# Altium schematic symbol library WE-MAIA.SchLib: 166 symbols (part 2 of 4)
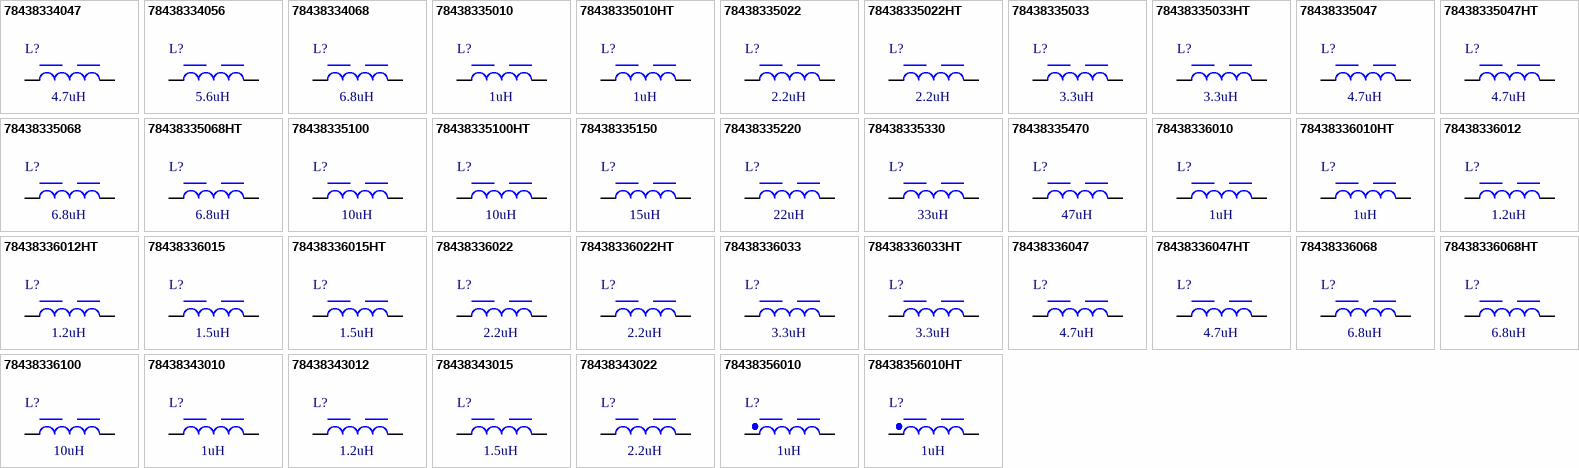
[diagram p5: symbols 78438334047 to 78438356010HT]

## 78438335150
designator L?, comment 15uH
WE-MAIA SMT Power Inductor, size 3015, 15uH, 0.95A, 830mOhm; Manufacturer Part Number: 78438335150; Manufacturer: Wurth Elektronik; Case/Size Code: 3015; Saturation Current @ 10%: 1.17A; Saturation Current @ 30%: 2.2A; Self Resonant Frequency: 14MHz; Category: Power Inductors; Match Code: WE-MAIA; ComponentLink1Description: Website Link; ComponentLink1URL: https://www.we-online.com/redexpert/article/78438335150?ad; ComponentLink2Description: Datasheet Link; ComponentLink2URL: https://www.we-online.com/redexpert/spec/78438335150?ad; Mount: Surface Mount; Operating Temperature Max: 125°C; Operating Temperature Min: -40°C; Packaging: Tape and Reel; Length: 3mm; Width: 3mm; Height: 1.5mm; Automotive: Yes; DC Resistance Max: 830mOhm; Inductance: 15uH; Rated Current: 0.95A
footprint WE-MAIA_3015
simulation model 3015_78438335150_15u
pins: 1, 2

## 78438335220
designator L?, comment 22uH
WE-MAIA SMT Power Inductor, size 3015, 22uH, 0.85A, 1040mOhm; Manufacturer Part Number: 78438335220; Manufacturer: Wurth Elektronik; Case/Size Code: 3015; Saturation Current @ 10%: 1.1A; Saturation Current @ 30%: 2A; Self Resonant Frequency: 12MHz; Category: Power Inductors; Match Code: WE-MAIA; ComponentLink1Description: Website Link; ComponentLink1URL: https://www.we-online.com/redexpert/article/78438335220?ad; ComponentLink2Description: Datasheet Link; ComponentLink2URL: https://www.we-online.com/redexpert/spec/78438335220?ad; Mount: Surface Mount; Operating Temperature Max: 125°C; Operating Temperature Min: -40°C; Packaging: Tape and Reel; Length: 3mm; Width: 3mm; Height: 1.5mm; Automotive: Yes; DC Resistance Max: 1040mOhm; Inductance: 22uH; Rated Current: 0.85A
footprint WE-MAIA_3015
simulation model 3015_78438335220_22u
pins: 1, 2

## 78438335330
designator L?, comment 33uH
WE-MAIA SMT Power Inductor, size 3015, 33uH, 0.7A, 1330mOhm; Manufacturer Part Number: 78438335330; Manufacturer: Wurth Elektronik; Case/Size Code: 3015; Saturation Current @ 10%: 0.9A; Saturation Current @ 30%: 1.7A; Self Resonant Frequency: 10MHz; Category: Power Inductors; Match Code: WE-MAIA; ComponentLink1Description: Website Link; ComponentLink1URL: https://www.we-online.com/redexpert/article/78438335330?ad; ComponentLink2Description: Datasheet Link; ComponentLink2URL: https://www.we-online.com/redexpert/spec/78438335330?ad; Mount: Surface Mount; Operating Temperature Max: 125°C; Operating Temperature Min: -40°C; Packaging: Tape and Reel; Length: 3mm; Width: 3mm; Height: 1.5mm; Automotive: Yes; DC Resistance Max: 1330mOhm; Inductance: 33uH; Rated Current: 0.7A
footprint WE-MAIA_3015
simulation model 3015_78438335330_33u
pins: 1, 2

## 78438335470
designator L?, comment 47uH
WE-MAIA SMT Power Inductor, size 3015, 47uH, 0.5A, 2300mOhm; Manufacturer Part Number: 78438335470; Manufacturer: Wurth Elektronik; Case/Size Code: 3015; Saturation Current @ 10%: 0.75A; Saturation Current @ 30%: 1.5A; Self Resonant Frequency: 8MHz; Category: Power Inductors; Match Code: WE-MAIA; ComponentLink1Description: Website Link; ComponentLink1URL: https://www.we-online.com/redexpert/article/78438335470?ad; ComponentLink2Description: Datasheet Link; ComponentLink2URL: https://www.we-online.com/redexpert/spec/78438335470?ad; Mount: Surface Mount; Operating Temperature Max: 125°C; Operating Temperature Min: -40°C; Packaging: Tape and Reel; Length: 3mm; Width: 3mm; Height: 1.5mm; Automotive: Yes; DC Resistance Max: 2300mOhm; Inductance: 47uH; Rated Current: 0.5A
footprint WE-MAIA_3015
simulation model 3015_78438335470_47u
pins: 1, 2

## 78438336010
designator L?, comment 1uH
WE-MAIA SMT Power Inductor, size 3020, 1uH, 6.15A, 32mOhm; Manufacturer Part Number: 78438336010; Manufacturer: Wurth Elektronik; Case/Size Code: 3020; Saturation Current @ 10%: 3.25A; Saturation Current @ 30%: 6.5A; Self Resonant Frequency: 67MHz; Category: Power Inductors; Match Code: WE-MAIA; ComponentLink1Description: Website Link; ComponentLink1URL: https://www.we-online.com/redexpert/article/78438336010?ad; ComponentLink2Description: Datasheet Link; ComponentLink2URL: https://www.we-online.com/redexpert/spec/78438336010?ad; Mount: Surface Mount; Operating Temperature Max: 125°C; Operating Temperature Min: -40°C; Packaging: Tape and Reel; Length: 3mm; Width: 3mm; Height: 2mm; Automotive: Yes; DC Resistance Max: 32mOhm; Inductance: 1uH; Rated Current: 6.15A
footprint WE-MAIA_3020
simulation model 3020_78438336010_1u
pins: 1, 2

## 78438336010HT
designator L?, comment 1uH
WE-MAIA SMT Power Inductor, size 3020HT, 1uH, 5.8A, 32.8mOhm; Manufacturer Part Number: 78438336010HT; Manufacturer: Wurth Elektronik; Saturation Current @ 10%: 2.7A; Saturation Current @ 30%: 6.3A; Self Resonant Frequency: 67MHz; Category: Power Inductors; Match Code: WE-MAIA; ComponentLink1Description: Website Link; ComponentLink1URL: https://www.we-online.com/redexpert/article/78438336010HT?ad; ComponentLink2Description: Datasheet Link; ComponentLink2URL: https://www.we-online.com/redexpert/spec/78438336010HT?ad; Mount: Surface Mount; Operating Temperature Max: 150°C; Operating Temperature Min: -55°C; Packaging: Tape and Reel; Case/Size Code: 3020HT; Length: 3mm; Width: 3mm; Height: 2mm; Automotive: Yes; DC Resistance Max: 32.8mOhm; Inductance: 1uH; Rated Current: 5.8A
footprint WE-MAIA_3020HT
simulation model 3020HT_78438336010HT_1u
pins: 1, 2

## 78438336012
designator L?, comment 1.2uH
WE-MAIA SMT Power Inductor, size 3020, 1.2uH, 5.65A, 36mOhm; Manufacturer Part Number: 78438336012; Manufacturer: Wurth Elektronik; Case/Size Code: 3020; Saturation Current @ 10%: 3.05A; Saturation Current @ 30%: 6A; Self Resonant Frequency: 57MHz; Category: Power Inductors; Match Code: WE-MAIA; ComponentLink1Description: Website Link; ComponentLink1URL: https://www.we-online.com/redexpert/article/78438336012?ad; ComponentLink2Description: Datasheet Link; ComponentLink2URL: https://www.we-online.com/redexpert/spec/78438336012?ad; Mount: Surface Mount; Operating Temperature Max: 125°C; Operating Temperature Min: -40°C; Packaging: Tape and Reel; Length: 3mm; Width: 3mm; Height: 2mm; Automotive: Yes; DC Resistance Max: 36mOhm; Inductance: 1.2uH; Rated Current: 5.65A
footprint WE-MAIA_3020
simulation model 3020_78438336012_1.2u
pins: 1, 2

## 78438336012HT
designator L?, comment 1.2uH
WE-MAIA SMT Power Inductor, size 3020HT, 1.2uH, 5.4A, 37.5mOhm; Manufacturer Part Number: 78438336012HT; Manufacturer: Wurth Elektronik; Saturation Current @ 10%: 2.7A; Saturation Current @ 30%: 6A; Self Resonant Frequency: 60MHz; Category: Power Inductors; Match Code: WE-MAIA; ComponentLink1Description: Website Link; ComponentLink1URL: https://www.we-online.com/redexpert/article/78438336012HT?ad; ComponentLink2Description: Datasheet Link; ComponentLink2URL: https://www.we-online.com/redexpert/spec/78438336012HT?ad; Mount: Surface Mount; Operating Temperature Max: 150°C; Operating Temperature Min: -55°C; Packaging: Tape and Reel; Case/Size Code: 3020HT; Length: 3mm; Width: 3mm; Height: 2mm; Automotive: Yes; DC Resistance Max: 37.5mOhm; Inductance: 1.2uH; Rated Current: 5.4A
footprint WE-MAIA_3020HT
simulation model 3020HT_78438336012HT_1.2u
pins: 1, 2

## 78438336015
designator L?, comment 1.5uH
WE-MAIA SMT Power Inductor, size 3020, 1.5uH, 5.35A, 39mOhm; Manufacturer Part Number: 78438336015; Manufacturer: Wurth Elektronik; Case/Size Code: 3020; Saturation Current @ 10%: 2.95A; Saturation Current @ 30%: 5.85A; Self Resonant Frequency: 51MHz; Category: Power Inductors; Match Code: WE-MAIA; ComponentLink1Description: Website Link; ComponentLink1URL: https://www.we-online.com/redexpert/article/78438336015?ad; ComponentLink2Description: Datasheet Link; ComponentLink2URL: https://www.we-online.com/redexpert/spec/78438336015?ad; Mount: Surface Mount; Operating Temperature Max: 125°C; Operating Temperature Min: -40°C; Packaging: Tape and Reel; Length: 3mm; Width: 3mm; Height: 2mm; Automotive: Yes; DC Resistance Max: 39mOhm; Inductance: 1.5uH; Rated Current: 5.35A
footprint WE-MAIA_3020
simulation model 3020_78438336015_1.5u
pins: 1, 2

## 78438336015HT
designator L?, comment 1.5uH
WE-MAIA SMT Power Inductor, size 3020HT, 1.5uH, 5.2A, 40.5mOhm; Manufacturer Part Number: 78438336015HT; Manufacturer: Wurth Elektronik; Saturation Current @ 10%: 2.4A; Saturation Current @ 30%: 5.5A; Self Resonant Frequency: 53MHz; Category: Power Inductors; Match Code: WE-MAIA; ComponentLink1Description: Website Link; ComponentLink1URL: https://www.we-online.com/redexpert/article/78438336015HT?ad; ComponentLink2Description: Datasheet Link; ComponentLink2URL: https://www.we-online.com/redexpert/spec/78438336015HT?ad; Mount: Surface Mount; Operating Temperature Max: 150°C; Operating Temperature Min: -55°C; Packaging: Tape and Reel; Case/Size Code: 3020HT; Length: 3mm; Width: 3mm; Height: 2mm; Automotive: Yes; DC Resistance Max: 40.5mOhm; Inductance: 1.5uH; Rated Current: 5.2A
footprint WE-MAIA_3020HT
simulation model 3020HT_78438336015HT_1.5u
pins: 1, 2

## 78438336022
designator L?, comment 2.2uH
WE-MAIA SMT Power Inductor, size 3020, 2.2uH, 3.6A, 80mOhm; Manufacturer Part Number: 78438336022; Manufacturer: Wurth Elektronik; Case/Size Code: 3020; Saturation Current @ 10%: 2.75A; Saturation Current @ 30%: 5.55A; Self Resonant Frequency: 42MHz; Category: Power Inductors; Match Code: WE-MAIA; ComponentLink1Description: Website Link; ComponentLink1URL: https://www.we-online.com/redexpert/article/78438336022?ad; ComponentLink2Description: Datasheet Link; ComponentLink2URL: https://www.we-online.com/redexpert/spec/78438336022?ad; Mount: Surface Mount; Operating Temperature Max: 125°C; Operating Temperature Min: -40°C; Packaging: Tape and Reel; Length: 3mm; Width: 3mm; Height: 2mm; Automotive: Yes; DC Resistance Max: 80mOhm; Inductance: 2.2uH; Rated Current: 3.6A
footprint WE-MAIA_3020
simulation model 3020_78438336022_2.2u
pins: 1, 2

## 78438336022HT
designator L?, comment 2.2uH
WE-MAIA SMT Power Inductor, size 3020HT, 2.2uH, 4A, 65.5mOhm; Manufacturer Part Number: 78438336022HT; Manufacturer: Wurth Elektronik; Saturation Current @ 10%: 2.3A; Saturation Current @ 30%: 5.2A; Self Resonant Frequency: 47MHz; Category: Power Inductors; Match Code: WE-MAIA; ComponentLink1Description: Website Link; ComponentLink1URL: https://www.we-online.com/redexpert/article/78438336022HT?ad; ComponentLink2Description: Datasheet Link; ComponentLink2URL: https://www.we-online.com/redexpert/spec/78438336022HT?ad; Mount: Surface Mount; Operating Temperature Max: 150°C; Operating Temperature Min: -55°C; Packaging: Tape and Reel; Case/Size Code: 3020HT; Length: 3mm; Width: 3mm; Height: 2mm; Automotive: Yes; DC Resistance Max: 65.5mOhm; Inductance: 2.2uH; Rated Current: 4A
footprint WE-MAIA_3020HT
simulation model 3020HT_78438336022HT_2.2u
pins: 1, 2

## 78438336033
designator L?, comment 3.3uH
WE-MAIA SMT Power Inductor, size 3020, 3.3uH, 2.9A, 114mOhm; Manufacturer Part Number: 78438336033; Manufacturer: Wurth Elektronik; Case/Size Code: 3020; Saturation Current @ 10%: 2.85A; Saturation Current @ 30%: 5.35A; Self Resonant Frequency: 39MHz; Category: Power Inductors; Match Code: WE-MAIA; ComponentLink1Description: Website Link; ComponentLink1URL: https://www.we-online.com/redexpert/article/78438336033?ad; ComponentLink2Description: Datasheet Link; ComponentLink2URL: https://www.we-online.com/redexpert/spec/78438336033?ad; Mount: Surface Mount; Operating Temperature Max: 125°C; Operating Temperature Min: -40°C; Packaging: Tape and Reel; Length: 3mm; Width: 3mm; Height: 2mm; Automotive: Yes; DC Resistance Max: 114mOhm; Inductance: 3.3uH; Rated Current: 2.9A
footprint WE-MAIA_3020
simulation model 3020_78438336033_3.3u
pins: 1, 2

## 78438336033HT
designator L?, comment 3.3uH
WE-MAIA SMT Power Inductor, size 3020HT, 3.3uH, 3.1A, 98.8mOhm; Manufacturer Part Number: 78438336033HT; Manufacturer: Wurth Elektronik; Saturation Current @ 10%: 1.9A; Saturation Current @ 30%: 4.3A; Self Resonant Frequency: 37MHz; Category: Power Inductors; Match Code: WE-MAIA; ComponentLink1Description: Website Link; ComponentLink1URL: https://www.we-online.com/redexpert/article/78438336033HT?ad; ComponentLink2Description: Datasheet Link; ComponentLink2URL: https://www.we-online.com/redexpert/spec/78438336033HT?ad; Mount: Surface Mount; Operating Temperature Max: 150°C; Operating Temperature Min: -55°C; Packaging: Tape and Reel; Case/Size Code: 3020HT; Length: 3mm; Width: 3mm; Height: 2mm; Automotive: Yes; DC Resistance Max: 98.8mOhm; Inductance: 3.3uH; Rated Current: 3.1A
footprint WE-MAIA_3020HT
simulation model 3020HT_78438336033HT_3.3u
pins: 1, 2

## 78438336047
designator L?, comment 4.7uH
WE-MAIA SMT Power Inductor, size 3020, 4.7uH, 2.4A, 158mOhm; Manufacturer Part Number: 78438336047; Manufacturer: Wurth Elektronik; Case/Size Code: 3020; Saturation Current @ 30%: 5.15A; Self Resonant Frequency: 30MHz; Category: Power Inductors; Match Code: WE-MAIA; ComponentLink1Description: Website Link; ComponentLink1URL: https://www.we-online.com/redexpert/article/78438336047?ad; ComponentLink2Description: Datasheet Link; ComponentLink2URL: https://www.we-online.com/redexpert/spec/78438336047?ad; Mount: Surface Mount; Operating Temperature Max: 125°C; Operating Temperature Min: -40°C; Packaging: Tape and Reel; Length: 3mm; Width: 3mm; Height: 2mm; Automotive: Yes; DC Resistance Max: 158mOhm; Inductance: 4.7uH; Rated Current: 2.4A; Saturation Current @ 10%: 2.4A
footprint WE-MAIA_3020
simulation model 3020_78438336047_4.7u
pins: 1, 2

## 78438336047HT
designator L?, comment 4.7uH
WE-MAIA SMT Power Inductor, size 3020HT, 4.7uH, 2.5A, 150.2mOhm; Manufacturer Part Number: 78438336047HT; Manufacturer: Wurth Elektronik; Saturation Current @ 10%: 2A; Saturation Current @ 30%: 4.1A; Self Resonant Frequency: 28MHz; Category: Power Inductors; Match Code: WE-MAIA; ComponentLink1Description: Website Link; ComponentLink1URL: https://www.we-online.com/redexpert/article/78438336047HT?ad; ComponentLink2Description: Datasheet Link; ComponentLink2URL: https://www.we-online.com/redexpert/spec/78438336047HT?ad; Mount: Surface Mount; Operating Temperature Max: 150°C; Operating Temperature Min: -55°C; Packaging: Tape and Reel; Case/Size Code: 3020HT; Length: 3mm; Width: 3mm; Height: 2mm; Automotive: Yes; DC Resistance Max: 150.2mOhm; Inductance: 4.7uH; Rated Current: 2.5A
footprint WE-MAIA_3020HT
simulation model 3020HT_78438336047HT_4.7u
pins: 1, 2

## 78438336068
designator L?, comment 6.8uH
WE-MAIA SMT Power Inductor, size 3020, 6.8uH, 2.15A, 193mOhm; Manufacturer Part Number: 78438336068; Manufacturer: Wurth Elektronik; Case/Size Code: 3020; Saturation Current @ 10%: 1.85A; Saturation Current @ 30%: 3.65A; Self Resonant Frequency: 22MHz; Category: Power Inductors; Match Code: WE-MAIA; ComponentLink1Description: Website Link; ComponentLink1URL: https://www.we-online.com/redexpert/article/78438336068?ad; ComponentLink2Description: Datasheet Link; ComponentLink2URL: https://www.we-online.com/redexpert/spec/78438336068?ad; Mount: Surface Mount; Operating Temperature Max: 125°C; Operating Temperature Min: -40°C; Packaging: Tape and Reel; Length: 3mm; Width: 3mm; Height: 2mm; Automotive: Yes; DC Resistance Max: 193mOhm; Inductance: 6.8uH; Rated Current: 2.15A
footprint WE-MAIA_3020
simulation model 3020_78438336068_6.8u
pins: 1, 2

## 78438336068HT
designator L?, comment 6.8uH
WE-MAIA SMT Power Inductor, size 3020HT, 6.8uH, 2A, 227.1mOhm; Manufacturer Part Number: 78438336068HT; Manufacturer: Wurth Elektronik; Saturation Current @ 10%: 1.8A; Saturation Current @ 30%: 3.7A; Self Resonant Frequency: 22MHz; Category: Power Inductors; Match Code: WE-MAIA; ComponentLink1Description: Website Link; ComponentLink1URL: https://www.we-online.com/redexpert/article/78438336068HT?ad; ComponentLink2Description: Datasheet Link; ComponentLink2URL: https://www.we-online.com/redexpert/spec/78438336068HT?ad; Mount: Surface Mount; Operating Temperature Max: 150°C; Operating Temperature Min: -55°C; Packaging: Tape and Reel; Case/Size Code: 3020HT; Length: 3mm; Width: 3mm; Height: 2mm; Automotive: Yes; DC Resistance Max: 227.1mOhm; Inductance: 6.8uH; Rated Current: 2A
footprint WE-MAIA_3020HT
simulation model 3020HT_78438336068HT_6.8u
pins: 1, 2

## 78438336100
designator L?, comment 10uH
WE-MAIA SMT Power Inductor, size 3020, 10uH, 1.65A, 322mOhm; Manufacturer Part Number: 78438336100; Manufacturer: Wurth Elektronik; Case/Size Code: 3020; Saturation Current @ 10%: 1.55A; Saturation Current @ 30%: 3A; Self Resonant Frequency: 18MHz; Category: Power Inductors; Match Code: WE-MAIA; ComponentLink1Description: Website Link; ComponentLink1URL: https://www.we-online.com/redexpert/article/78438336100?ad; ComponentLink2Description: Datasheet Link; ComponentLink2URL: https://www.we-online.com/redexpert/spec/78438336100?ad; Mount: Surface Mount; Operating Temperature Max: 125°C; Operating Temperature Min: -40°C; Packaging: Tape and Reel; Length: 3mm; Width: 3mm; Height: 2mm; Automotive: Yes; DC Resistance Max: 322mOhm; Inductance: 10uH; Rated Current: 1.65A
footprint WE-MAIA_3020
simulation model 3020_78438336100_10u
pins: 1, 2

## 78438343010
designator L?, comment 1uH
WE-MAIA SMT Power Inductor, size 2010, 1uH, 2.8A, 104mOhm; Manufacturer Part Number: 78438343010; Manufacturer: Wurth Elektronik; Case/Size Code: 2010; Saturation Current @ 10%: 2.5A; Saturation Current @ 30%: 4.7A; Self Resonant Frequency: 99MHz; Category: Power Inductors; Match Code: WE-MAIA; ComponentLink1Description: Website Link; ComponentLink1URL: https://www.we-online.com/redexpert/article/78438343010?ad; ComponentLink2Description: Datasheet Link; ComponentLink2URL: https://www.we-online.com/redexpert/spec/78438343010?ad; Mount: Surface Mount; Operating Temperature Max: 125°C; Operating Temperature Min: -40°C; Packaging: Tape and Reel; Length: 2mm; Width: 1.6mm; Height: 1mm; Automotive: Yes; DC Resistance Max: 104mOhm; Inductance: 1uH; Rated Current: 2.8A
footprint WE-MAIA_2010
simulation model 2010_78438343010_1u
pins: 1, 2

## 78438343012
designator L?, comment 1.2uH
WE-MAIA SMT Power Inductor, size 2010, 1.2uH, 2.4A, 136mOhm; Manufacturer Part Number: 78438343012; Manufacturer: Wurth Elektronik; Case/Size Code: 2010; Saturation Current @ 10%: 2.55A; Saturation Current @ 30%: 4.9A; Self Resonant Frequency: 96MHz; Category: Power Inductors; Match Code: WE-MAIA; ComponentLink1Description: Website Link; ComponentLink1URL: https://www.we-online.com/redexpert/article/78438343012?ad; ComponentLink2Description: Datasheet Link; ComponentLink2URL: https://www.we-online.com/redexpert/spec/78438343012?ad; Mount: Surface Mount; Operating Temperature Max: 125°C; Operating Temperature Min: -40°C; Packaging: Tape and Reel; Length: 2mm; Width: 1.6mm; Height: 1mm; Automotive: Yes; DC Resistance Max: 136mOhm; Inductance: 1.2uH; Rated Current: 2.4A
footprint WE-MAIA_2010
simulation model 2010_78438343012_1.2u
pins: 1, 2

## 78438343015
designator L?, comment 1.5uH
WE-MAIA SMT Power Inductor, size 2010, 1.5uH, 2.05A, 180mOhm; Manufacturer Part Number: 78438343015; Manufacturer: Wurth Elektronik; Case/Size Code: 2010; Saturation Current @ 10%: 2A; Saturation Current @ 30%: 3.95A; Self Resonant Frequency: 85MHz; Category: Power Inductors; Match Code: WE-MAIA; ComponentLink1Description: Website Link; ComponentLink1URL: https://www.we-online.com/redexpert/article/78438343015?ad; ComponentLink2Description: Datasheet Link; ComponentLink2URL: https://www.we-online.com/redexpert/spec/78438343015?ad; Mount: Surface Mount; Operating Temperature Max: 125°C; Operating Temperature Min: -40°C; Packaging: Tape and Reel; Length: 2mm; Width: 1.6mm; Height: 1mm; Automotive: Yes; DC Resistance Max: 180mOhm; Inductance: 1.5uH; Rated Current: 2.05A
footprint WE-MAIA_2010
simulation model 2010_78438343015_1.5u
pins: 1, 2

## 78438343022
designator L?, comment 2.2uH
WE-MAIA SMT Power Inductor, size 2010, 2.2uH, 1.65A, 270mOhm; Manufacturer Part Number: 78438343022; Manufacturer: Wurth Elektronik; Case/Size Code: 2010; Saturation Current @ 30%: 3.3A; Self Resonant Frequency: 70MHz; Category: Power Inductors; Match Code: WE-MAIA; ComponentLink1Description: Website Link; ComponentLink1URL: https://www.we-online.com/redexpert/article/78438343022?ad; ComponentLink2Description: Datasheet Link; ComponentLink2URL: https://www.we-online.com/redexpert/spec/78438343022?ad; Mount: Surface Mount; Operating Temperature Max: 125°C; Operating Temperature Min: -40°C; Packaging: Tape and Reel; Length: 2mm; Width: 1.6mm; Height: 1mm; Automotive: Yes; DC Resistance Max: 270mOhm; Inductance: 2.2uH; Rated Current: 1.65A; Saturation Current @ 10%: 1.65A
footprint WE-MAIA_2010
simulation model 2010_78438343022_2.2u
pins: 1, 2

## 78438356010
designator L?, comment 1uH
WE-MAIA SMT Power Inductor, size 4020, 1uH, 10.1A, 15mOhm; Manufacturer Part Number: 78438356010; Manufacturer: Wurth Elektronik; Case/Size Code: 4020; Saturation Current @ 10%: 5.3A; Saturation Current @ 30%: 11.5A; Self Resonant Frequency: 55MHz; Category: Power Inductors; Match Code: WE-MAIA; ComponentLink1Description: Website Link; ComponentLink1URL: https://www.we-online.com/redexpert/article/78438356010?ad; ComponentLink2Description: Datasheet Link; ComponentLink2URL: https://www.we-online.com/redexpert/spec/78438356010?ad; Mount: Surface Mount; Operating Temperature Max: 125°C; Operating Temperature Min: -40°C; Packaging: Tape and Reel; Length: 4.1mm; Width: 4.1mm; Height: 2.1mm; Automotive: Yes; DC Resistance Max: 15mOhm; Inductance: 1uH; Rated Current: 10.1A
footprint WE-MAIA_4020
simulation model 4020_78438356010_1u
pins: 1, 2

## 78438356010HT
designator L?, comment 1uH
WE-MAIA SMT Power Inductor, size 4020HT, 1uH, 8.75A, 15.5mOhm; Manufacturer Part Number: 78438356010HT; Manufacturer: Wurth Elektronik; Saturation Current @ 10%: 4.25A; Saturation Current @ 30%: 9.3A; Self Resonant Frequency: 46MHz; Category: Power Inductors; Match Code: WE-MAIA; ComponentLink1Description: Website Link; ComponentLink1URL: https://www.we-online.com/redexpert/article/78438356010HT?ad; ComponentLink2Description: Datasheet Link; ComponentLink2URL: https://www.we-online.com/redexpert/spec/78438356010HT?ad; Mount: Surface Mount; Operating Temperature Max: 150°C; Operating Temperature Min: -55°C; Packaging: Tape and Reel; Case/Size Code: 4020HT; Length: 4mm; Width: 4mm; Height: 2.4mm; Automotive: Yes; DC Resistance Max: 15.5mOhm; Inductance: 1uH; Rated Current: 8.75A
footprint WE-MAIA_4020HT
simulation model 4020HT_78438356010HT_1u
pins: 1, 2

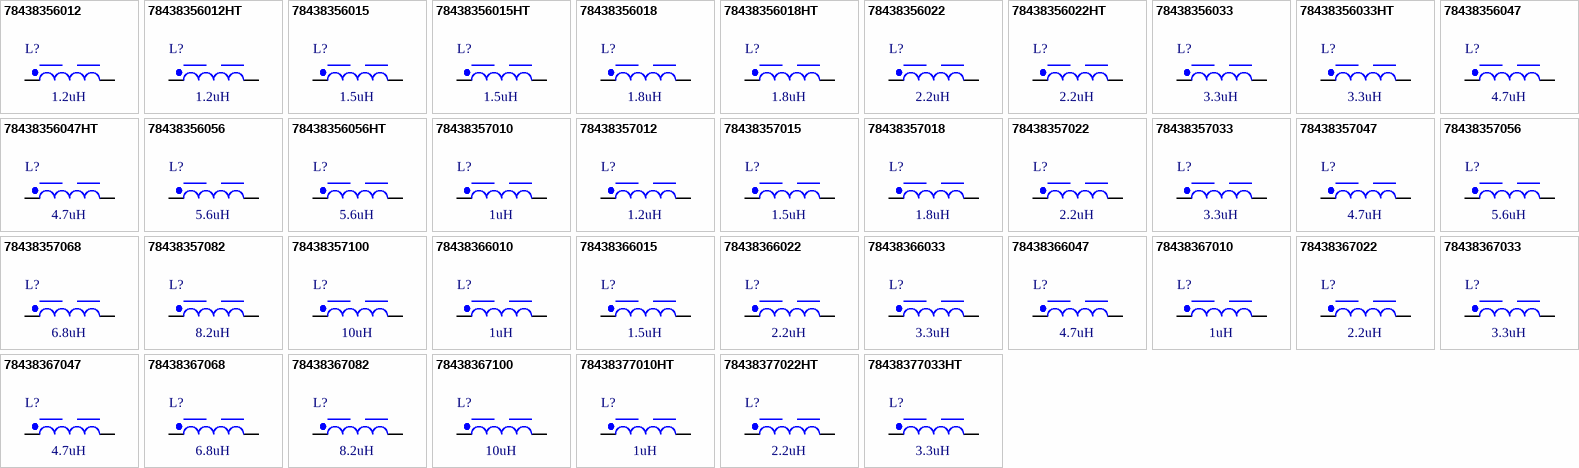
[diagram p2: symbols 78438356012 to 78438377033HT]

## 78438356012
designator L?, comment 1.2uH
WE-MAIA SMT Power Inductor, size 4020, 1.2uH, 8.9A, 18mOhm; Manufacturer Part Number: 78438356012; Manufacturer: Wurth Elektronik; Case/Size Code: 4020; Saturation Current @ 10%: 5.55A; Saturation Current @ 30%: 11.2A; Self Resonant Frequency: 52MHz; Category: Power Inductors; Match Code: WE-MAIA; ComponentLink1Description: Website Link; ComponentLink1URL: https://www.we-online.com/redexpert/article/78438356012?ad; ComponentLink2Description: Datasheet Link; ComponentLink2URL: https://www.we-online.com/redexpert/spec/78438356012?ad; Mount: Surface Mount; Operating Temperature Max: 125°C; Operating Temperature Min: -40°C; Packaging: Tape and Reel; Length: 4.1mm; Width: 4.1mm; Height: 2.1mm; Automotive: Yes; DC Resistance Max: 18mOhm; Inductance: 1.2uH; Rated Current: 8.9A
footprint WE-MAIA_4020
simulation model 4020_78438356012_1.2u
pins: 1, 2

## 78438356012HT
designator L?, comment 1.2uH
WE-MAIA SMT Power Inductor, size 4020HT, 1.2uH, 8A, 18.4mOhm; Manufacturer Part Number: 78438356012HT; Manufacturer: Wurth Elektronik; Saturation Current @ 10%: 4.3A; Saturation Current @ 30%: 9.3A; Self Resonant Frequency: 45MHz; Category: Power Inductors; Match Code: WE-MAIA; ComponentLink1Description: Website Link; ComponentLink1URL: https://www.we-online.com/redexpert/article/78438356012HT?ad; ComponentLink2Description: Datasheet Link; ComponentLink2URL: https://www.we-online.com/redexpert/spec/78438356012HT?ad; Mount: Surface Mount; Operating Temperature Max: 150°C; Operating Temperature Min: -55°C; Packaging: Tape and Reel; Case/Size Code: 4020HT; Length: 4mm; Width: 4mm; Height: 2.4mm; Automotive: Yes; DC Resistance Max: 18.4mOhm; Inductance: 1.2uH; Rated Current: 8A
footprint WE-MAIA_4020HT
simulation model 4020HT_78438356012HT_1.2u
pins: 1, 2

## 78438356015
designator L?, comment 1.5uH
WE-MAIA SMT Power Inductor, size 4020, 1.5uH, 8.6A, 19mOhm; Manufacturer Part Number: 78438356015; Manufacturer: Wurth Elektronik; Case/Size Code: 4020; Saturation Current @ 10%: 4.8A; Saturation Current @ 30%: 10.2A; Self Resonant Frequency: 48MHz; Category: Power Inductors; Match Code: WE-MAIA; ComponentLink1Description: Website Link; ComponentLink1URL: https://www.we-online.com/redexpert/article/78438356015?ad; ComponentLink2Description: Datasheet Link; ComponentLink2URL: https://www.we-online.com/redexpert/spec/78438356015?ad; Mount: Surface Mount; Operating Temperature Max: 125°C; Operating Temperature Min: -40°C; Packaging: Tape and Reel; Length: 4.1mm; Width: 4.1mm; Height: 2.1mm; Automotive: Yes; DC Resistance Max: 19mOhm; Inductance: 1.5uH; Rated Current: 8.6A
footprint WE-MAIA_4020
simulation model 4020_78438356015_1.5u
pins: 1, 2

## 78438356015HT
designator L?, comment 1.5uH
WE-MAIA SMT Power Inductor, size 4020HT, 1.5uH, 7.45A, 20.7mOhm; Manufacturer Part Number: 78438356015HT; Manufacturer: Wurth Elektronik; Saturation Current @ 10%: 4.2A; Saturation Current @ 30%: 9A; Self Resonant Frequency: 40MHz; Category: Power Inductors; Match Code: WE-MAIA; ComponentLink1Description: Website Link; ComponentLink1URL: https://www.we-online.com/redexpert/article/78438356015HT?ad; ComponentLink2Description: Datasheet Link; ComponentLink2URL: https://www.we-online.com/redexpert/spec/78438356015HT?ad; Mount: Surface Mount; Operating Temperature Max: 150°C; Operating Temperature Min: -55°C; Packaging: Tape and Reel; Case/Size Code: 4020HT; Length: 4mm; Width: 4mm; Height: 2.4mm; Automotive: Yes; DC Resistance Max: 20.7mOhm; Inductance: 1.5uH; Rated Current: 7.45A
footprint WE-MAIA_4020HT
simulation model 4020HT_78438356015HT_1.5u
pins: 1, 2

## 78438356018
designator L?, comment 1.8uH
WE-MAIA SMT Power Inductor, size 4020, 1.8uH, 6.8A, 30mOhm; Manufacturer Part Number: 78438356018; Manufacturer: Wurth Elektronik; Case/Size Code: 4020; Saturation Current @ 10%: 4.35A; Saturation Current @ 30%: 8.7A; Self Resonant Frequency: 40MHz; Category: Power Inductors; Match Code: WE-MAIA; ComponentLink1Description: Website Link; ComponentLink1URL: https://www.we-online.com/redexpert/article/78438356018?ad; ComponentLink2Description: Datasheet Link; ComponentLink2URL: https://www.we-online.com/redexpert/spec/78438356018?ad; Mount: Surface Mount; Operating Temperature Max: 125°C; Operating Temperature Min: -40°C; Packaging: Tape and Reel; Length: 4.1mm; Width: 4.1mm; Height: 2.1mm; Automotive: Yes; DC Resistance Max: 30mOhm; Inductance: 1.8uH; Rated Current: 6.8A
footprint WE-MAIA_4020
simulation model 4020_78438356018_1.8u
pins: 1, 2

## 78438356018HT
designator L?, comment 1.8uH
WE-MAIA SMT Power Inductor, size 4020HT, 1.8uH, 6.05A, 29.9mOhm; Manufacturer Part Number: 78438356018HT; Manufacturer: Wurth Elektronik; Saturation Current @ 10%: 3.95A; Saturation Current @ 30%: 8.3A; Self Resonant Frequency: 37.5MHz; Category: Power Inductors; Match Code: WE-MAIA; ComponentLink1Description: Website Link; ComponentLink1URL: https://www.we-online.com/redexpert/article/78438356018HT?ad; ComponentLink2Description: Datasheet Link; ComponentLink2URL: https://www.we-online.com/redexpert/spec/78438356018HT?ad; Mount: Surface Mount; Operating Temperature Max: 150°C; Operating Temperature Min: -55°C; Packaging: Tape and Reel; Case/Size Code: 4020HT; Length: 4mm; Width: 4mm; Height: 2.4mm; Automotive: Yes; DC Resistance Max: 29.9mOhm; Inductance: 1.8uH; Rated Current: 6.05A
footprint WE-MAIA_4020HT
simulation model 4020HT_78438356018HT_1.8u
pins: 1, 2

## 78438356022
designator L?, comment 2.2uH
WE-MAIA SMT Power Inductor, size 4020, 2.2uH, 6.2A, 35mOhm; Manufacturer Part Number: 78438356022; Manufacturer: Wurth Elektronik; Case/Size Code: 4020; Saturation Current @ 10%: 4.05A; Saturation Current @ 30%: 7.9A; Self Resonant Frequency: 34MHz; Category: Power Inductors; Match Code: WE-MAIA; ComponentLink1Description: Website Link; ComponentLink1URL: https://www.we-online.com/redexpert/article/78438356022?ad; ComponentLink2Description: Datasheet Link; ComponentLink2URL: https://www.we-online.com/redexpert/spec/78438356022?ad; Mount: Surface Mount; Operating Temperature Max: 125°C; Operating Temperature Min: -40°C; Packaging: Tape and Reel; Length: 4.1mm; Width: 4.1mm; Height: 2.1mm; Automotive: Yes; DC Resistance Max: 35mOhm; Inductance: 2.2uH; Rated Current: 6.2A
footprint WE-MAIA_4020
simulation model 4020_78438356022_2.2u
pins: 1, 2

## 78438356022HT
designator L?, comment 2.2uH
WE-MAIA SMT Power Inductor, size 4020HT, 2.2uH, 5.9A, 32.2mOhm; Manufacturer Part Number: 78438356022HT; Manufacturer: Wurth Elektronik; Saturation Current @ 10%: 3.7A; Saturation Current @ 30%: 7.6A; Self Resonant Frequency: 30MHz; Category: Power Inductors; Match Code: WE-MAIA; ComponentLink1Description: Website Link; ComponentLink1URL: https://www.we-online.com/redexpert/article/78438356022HT?ad; ComponentLink2Description: Datasheet Link; ComponentLink2URL: https://www.we-online.com/redexpert/spec/78438356022HT?ad; Mount: Surface Mount; Operating Temperature Max: 150°C; Operating Temperature Min: -55°C; Packaging: Tape and Reel; Case/Size Code: 4020HT; Length: 4mm; Width: 4mm; Height: 2.4mm; Automotive: Yes; DC Resistance Max: 32.2mOhm; Inductance: 2.2uH; Rated Current: 5.9A
footprint WE-MAIA_4020HT
simulation model 4020HT_78438356022HT_2.2u
pins: 1, 2

## 78438356033
designator L?, comment 3.3uH
WE-MAIA SMT Power Inductor, size 4020, 3.3uH, 5.15A, 48mOhm; Manufacturer Part Number: 78438356033; Manufacturer: Wurth Elektronik; Case/Size Code: 4020; Saturation Current @ 10%: 3.55A; Saturation Current @ 30%: 7.1A; Self Resonant Frequency: 26MHz; Category: Power Inductors; Match Code: WE-MAIA; ComponentLink1Description: Website Link; ComponentLink1URL: https://www.we-online.com/redexpert/article/78438356033?ad; ComponentLink2Description: Datasheet Link; ComponentLink2URL: https://www.we-online.com/redexpert/spec/78438356033?ad; Mount: Surface Mount; Operating Temperature Max: 125°C; Operating Temperature Min: -40°C; Packaging: Tape and Reel; Length: 4.1mm; Width: 4.1mm; Height: 2.1mm; Automotive: Yes; DC Resistance Max: 48mOhm; Inductance: 3.3uH; Rated Current: 5.15A
footprint WE-MAIA_4020
simulation model 4020_78438356033_3.3u
pins: 1, 2

## 78438356033HT
designator L?, comment 3.3uH
WE-MAIA SMT Power Inductor, size 4020HT, 3.3uH, 4.45A, 51.8mOhm; Manufacturer Part Number: 78438356033HT; Manufacturer: Wurth Elektronik; Saturation Current @ 10%: 3.1A; Saturation Current @ 30%: 6.5A; Self Resonant Frequency: 25.5MHz; Category: Power Inductors; Match Code: WE-MAIA; ComponentLink1Description: Website Link; ComponentLink1URL: https://www.we-online.com/redexpert/article/78438356033HT?ad; ComponentLink2Description: Datasheet Link; ComponentLink2URL: https://www.we-online.com/redexpert/spec/78438356033HT?ad; Mount: Surface Mount; Operating Temperature Max: 150°C; Operating Temperature Min: -55°C; Packaging: Tape and Reel; Case/Size Code: 4020HT; Length: 4mm; Width: 4mm; Height: 2.4mm; Automotive: Yes; DC Resistance Max: 51.8mOhm; Inductance: 3.3uH; Rated Current: 4.45A
footprint WE-MAIA_4020HT
simulation model 4020HT_78438356033HT_3.3u
pins: 1, 2

## 78438356047
designator L?, comment 4.7uH
WE-MAIA SMT Power Inductor, size 4020, 4.7uH, 4A, 76mOhm; Manufacturer Part Number: 78438356047; Manufacturer: Wurth Elektronik; Case/Size Code: 4020; Saturation Current @ 10%: 3.05A; Saturation Current @ 30%: 5.75A; Self Resonant Frequency: 22MHz; Category: Power Inductors; Match Code: WE-MAIA; ComponentLink1Description: Website Link; ComponentLink1URL: https://www.we-online.com/redexpert/article/78438356047?ad; ComponentLink2Description: Datasheet Link; ComponentLink2URL: https://www.we-online.com/redexpert/spec/78438356047?ad; Mount: Surface Mount; Operating Temperature Max: 125°C; Operating Temperature Min: -40°C; Packaging: Tape and Reel; Length: 4.1mm; Width: 4.1mm; Height: 2.1mm; Automotive: Yes; DC Resistance Max: 76mOhm; Inductance: 4.7uH; Rated Current: 4A
footprint WE-MAIA_4020
simulation model 4020_78438356047_4.7u
pins: 1, 2

## 78438356047HT
designator L?, comment 4.7uH
WE-MAIA SMT Power Inductor, size 4020HT, 4.7uH, 3.7A, 74.8mOhm; Manufacturer Part Number: 78438356047HT; Manufacturer: Wurth Elektronik; Saturation Current @ 10%: 2.35A; Saturation Current @ 30%: 5.05A; Self Resonant Frequency: 18MHz; Category: Power Inductors; Match Code: WE-MAIA; ComponentLink1Description: Website Link; ComponentLink1URL: https://www.we-online.com/redexpert/article/78438356047HT?ad; ComponentLink2Description: Datasheet Link; ComponentLink2URL: https://www.we-online.com/redexpert/spec/78438356047HT?ad; Mount: Surface Mount; Operating Temperature Max: 150°C; Operating Temperature Min: -55°C; Packaging: Tape and Reel; Case/Size Code: 4020HT; Length: 4mm; Width: 4mm; Height: 2.4mm; Automotive: Yes; DC Resistance Max: 74.8mOhm; Inductance: 4.7uH; Rated Current: 3.7A
footprint WE-MAIA_4020HT
simulation model 4020HT_78438356047HT_4.7u
pins: 1, 2

## 78438356056
designator L?, comment 5.6uH
WE-MAIA SMT Power Inductor, size 4020, 5.6uH, 3.85A, 81mOhm; Manufacturer Part Number: 78438356056; Manufacturer: Wurth Elektronik; Case/Size Code: 4020; Saturation Current @ 10%: 2.65A; Saturation Current @ 30%: 5.5A; Self Resonant Frequency: 20MHz; Category: Power Inductors; Match Code: WE-MAIA; ComponentLink1Description: Website Link; ComponentLink1URL: https://www.we-online.com/redexpert/article/78438356056?ad; ComponentLink2Description: Datasheet Link; ComponentLink2URL: https://www.we-online.com/redexpert/spec/78438356056?ad; Mount: Surface Mount; Operating Temperature Max: 125°C; Operating Temperature Min: -40°C; Packaging: Tape and Reel; Length: 4.1mm; Width: 4.1mm; Height: 2.1mm; Automotive: Yes; DC Resistance Max: 81mOhm; Inductance: 5.6uH; Rated Current: 3.85A
footprint WE-MAIA_4020
simulation model 4020_78438356056_5.6u
pins: 1, 2

## 78438356056HT
designator L?, comment 5.6uH
WE-MAIA SMT Power Inductor, size 4020HT, 5.6uH, 3.5A, 80.5mOhm; Manufacturer Part Number: 78438356056HT; Manufacturer: Wurth Elektronik; Saturation Current @ 10%: 2.25A; Saturation Current @ 30%: 4.9A; Self Resonant Frequency: 17MHz; Category: Power Inductors; Match Code: WE-MAIA; ComponentLink1Description: Website Link; ComponentLink1URL: https://www.we-online.com/redexpert/article/78438356056HT?ad; ComponentLink2Description: Datasheet Link; ComponentLink2URL: https://www.we-online.com/redexpert/spec/78438356056HT?ad; Mount: Surface Mount; Operating Temperature Max: 150°C; Operating Temperature Min: -55°C; Packaging: Tape and Reel; Case/Size Code: 4020HT; Length: 4mm; Width: 4mm; Height: 2.4mm; Automotive: Yes; DC Resistance Max: 80.5mOhm; Inductance: 5.6uH; Rated Current: 3.5A
footprint WE-MAIA_4020HT
simulation model 4020HT_78438356056HT_5.6u
pins: 1, 2

## 78438357010
designator L?, comment 1uH
WE-MAIA SMT Power Inductor, size 4030, 1uH, 10.25A, 13.5mOhm; Manufacturer Part Number: 78438357010; Manufacturer: Wurth Elektronik; Case/Size Code: 4030; Saturation Current @ 10%: 6.2A; Saturation Current @ 30%: 12.5A; Self Resonant Frequency: 59MHz; Category: Power Inductors; Match Code: WE-MAIA; ComponentLink1Description: Website Link; ComponentLink1URL: https://www.we-online.com/redexpert/article/78438357010?ad; ComponentLink2Description: Datasheet Link; ComponentLink2URL: https://www.we-online.com/redexpert/spec/78438357010?ad; Mount: Surface Mount; Operating Temperature Max: 125°C; Operating Temperature Min: -40°C; Packaging: Tape and Reel; Length: 4.1mm; Width: 4.1mm; Height: 3.1mm; Automotive: Yes; DC Resistance Max: 13.5mOhm; Inductance: 1uH; Rated Current: 10.25A
footprint WE-MAIA_4030
simulation model 4030_78438357010_1u
pins: 1, 2

## 78438357012
designator L?, comment 1.2uH
WE-MAIA SMT Power Inductor, size 4030, 1.2uH, 9.4A, 15.5mOhm; Manufacturer Part Number: 78438357012; Manufacturer: Wurth Elektronik; Case/Size Code: 4030; Saturation Current @ 10%: 5.55A; Saturation Current @ 30%: 11.6A; Self Resonant Frequency: 51MHz; Category: Power Inductors; Match Code: WE-MAIA; ComponentLink1Description: Website Link; ComponentLink1URL: https://www.we-online.com/redexpert/article/78438357012?ad; ComponentLink2Description: Datasheet Link; ComponentLink2URL: https://www.we-online.com/redexpert/spec/78438357012?ad; Mount: Surface Mount; Operating Temperature Max: 125°C; Operating Temperature Min: -40°C; Packaging: Tape and Reel; Length: 4.1mm; Width: 4.1mm; Height: 3.1mm; Automotive: Yes; DC Resistance Max: 15.5mOhm; Inductance: 1.2uH; Rated Current: 9.4A
footprint WE-MAIA_4030
simulation model 4030_78438357012_1.2u
pins: 1, 2

## 78438357015
designator L?, comment 1.5uH
WE-MAIA SMT Power Inductor, size 4030, 1.5uH, 8.2A, 20mOhm; Manufacturer Part Number: 78438357015; Manufacturer: Wurth Elektronik; Case/Size Code: 4030; Saturation Current @ 10%: 5.55A; Saturation Current @ 30%: 11A; Self Resonant Frequency: 48MHz; Category: Power Inductors; Match Code: WE-MAIA; ComponentLink1Description: Website Link; ComponentLink1URL: https://www.we-online.com/redexpert/article/78438357015?ad; ComponentLink2Description: Datasheet Link; ComponentLink2URL: https://www.we-online.com/redexpert/spec/78438357015?ad; Mount: Surface Mount; Operating Temperature Max: 125°C; Operating Temperature Min: -40°C; Packaging: Tape and Reel; Length: 4.1mm; Width: 4.1mm; Height: 3.1mm; Automotive: Yes; DC Resistance Max: 20mOhm; Inductance: 1.5uH; Rated Current: 8.2A
footprint WE-MAIA_4030
simulation model 4030_78438357015_1.5u
pins: 1, 2

## 78438357018
designator L?, comment 1.8uH
WE-MAIA SMT Power Inductor, size 4030, 1.8uH, 7.9A, 21mOhm; Manufacturer Part Number: 78438357018; Manufacturer: Wurth Elektronik; Case/Size Code: 4030; Saturation Current @ 10%: 5.05A; Saturation Current @ 30%: 10.3A; Self Resonant Frequency: 42MHz; Category: Power Inductors; Match Code: WE-MAIA; ComponentLink1Description: Website Link; ComponentLink1URL: https://www.we-online.com/redexpert/article/78438357018?ad; ComponentLink2Description: Datasheet Link; ComponentLink2URL: https://www.we-online.com/redexpert/spec/78438357018?ad; Mount: Surface Mount; Operating Temperature Max: 125°C; Operating Temperature Min: -40°C; Packaging: Tape and Reel; Length: 4.1mm; Width: 4.1mm; Height: 3.1mm; Automotive: Yes; DC Resistance Max: 21mOhm; Inductance: 1.8uH; Rated Current: 7.9A
footprint WE-MAIA_4030
simulation model 4030_78438357018_1.8u
pins: 1, 2

## 78438357022
designator L?, comment 2.2uH
WE-MAIA SMT Power Inductor, size 4030, 2.2uH, 7.1A, 26mOhm; Manufacturer Part Number: 78438357022; Manufacturer: Wurth Elektronik; Case/Size Code: 4030; Saturation Current @ 10%: 4.6A; Saturation Current @ 30%: 9.2A; Self Resonant Frequency: 35MHz; Category: Power Inductors; Match Code: WE-MAIA; ComponentLink1Description: Website Link; ComponentLink1URL: https://www.we-online.com/redexpert/article/78438357022?ad; ComponentLink2Description: Datasheet Link; ComponentLink2URL: https://www.we-online.com/redexpert/spec/78438357022?ad; Mount: Surface Mount; Operating Temperature Max: 125°C; Operating Temperature Min: -40°C; Packaging: Tape and Reel; Length: 4.1mm; Width: 4.1mm; Height: 3.1mm; Automotive: Yes; DC Resistance Max: 26mOhm; Inductance: 2.2uH; Rated Current: 7.1A
footprint WE-MAIA_4030
simulation model 4030_78438357022_2.2u
pins: 1, 2

## 78438357033
designator L?, comment 3.3uH
WE-MAIA SMT Power Inductor, size 4030, 3.3uH, 6.1A, 33.5mOhm; Manufacturer Part Number: 78438357033; Manufacturer: Wurth Elektronik; Case/Size Code: 4030; Saturation Current @ 10%: 3.3A; Saturation Current @ 30%: 7A; Self Resonant Frequency: 26MHz; Category: Power Inductors; Match Code: WE-MAIA; ComponentLink1Description: Website Link; ComponentLink1URL: https://www.we-online.com/redexpert/article/78438357033?ad; ComponentLink2Description: Datasheet Link; ComponentLink2URL: https://www.we-online.com/redexpert/spec/78438357033?ad; Mount: Surface Mount; Operating Temperature Max: 125°C; Operating Temperature Min: -40°C; Packaging: Tape and Reel; Length: 4.1mm; Width: 4.1mm; Height: 3.1mm; Automotive: Yes; DC Resistance Max: 33.5mOhm; Inductance: 3.3uH; Rated Current: 6.1A
footprint WE-MAIA_4030
simulation model 4030_78438357033_3.3u
pins: 1, 2

## 78438357047
designator L?, comment 4.7uH
WE-MAIA SMT Power Inductor, size 4030, 4.7uH, 5.1A, 44mOhm; Manufacturer Part Number: 78438357047; Manufacturer: Wurth Elektronik; Case/Size Code: 4030; Saturation Current @ 10%: 4.15A; Saturation Current @ 30%: 8.2A; Self Resonant Frequency: 24MHz; Category: Power Inductors; Match Code: WE-MAIA; ComponentLink1Description: Website Link; ComponentLink1URL: https://www.we-online.com/redexpert/article/78438357047?ad; ComponentLink2Description: Datasheet Link; ComponentLink2URL: https://www.we-online.com/redexpert/spec/78438357047?ad; Mount: Surface Mount; Operating Temperature Max: 125°C; Operating Temperature Min: -40°C; Packaging: Tape and Reel; Length: 4.1mm; Width: 4.1mm; Height: 3.1mm; Automotive: Yes; DC Resistance Max: 44mOhm; Inductance: 4.7uH; Rated Current: 5.1A
footprint WE-MAIA_4030
simulation model 4030_78438357047_4.7u
pins: 1, 2

## 78438357056
designator L?, comment 5.6uH
WE-MAIA SMT Power Inductor, size 4030, 5.6uH, 4.7A, 51mOhm; Manufacturer Part Number: 78438357056; Manufacturer: Wurth Elektronik; Case/Size Code: 4030; Saturation Current @ 10%: 3.9A; Saturation Current @ 30%: 8.1A; Self Resonant Frequency: 21MHz; Category: Power Inductors; Match Code: WE-MAIA; ComponentLink1Description: Website Link; ComponentLink1URL: https://www.we-online.com/redexpert/article/78438357056?ad; ComponentLink2Description: Datasheet Link; ComponentLink2URL: https://www.we-online.com/redexpert/spec/78438357056?ad; Mount: Surface Mount; Operating Temperature Max: 125°C; Operating Temperature Min: -40°C; Packaging: Tape and Reel; Length: 4.1mm; Width: 4.1mm; Height: 3.1mm; Automotive: Yes; DC Resistance Max: 51mOhm; Inductance: 5.6uH; Rated Current: 4.7A
footprint WE-MAIA_4030
simulation model 4030_78438357056_5.6u
pins: 1, 2

## 78438357068
designator L?, comment 6.8uH
WE-MAIA SMT Power Inductor, size 4030, 6.8uH, 3.75A, 74mOhm; Manufacturer Part Number: 78438357068; Manufacturer: Wurth Elektronik; Case/Size Code: 4030; Saturation Current @ 10%: 3.5A; Saturation Current @ 30%: 7.2A; Self Resonant Frequency: 19.5MHz; Category: Power Inductors; Match Code: WE-MAIA; ComponentLink1Description: Website Link; ComponentLink1URL: https://www.we-online.com/redexpert/article/78438357068?ad; ComponentLink2Description: Datasheet Link; ComponentLink2URL: https://www.we-online.com/redexpert/spec/78438357068?ad; Mount: Surface Mount; Operating Temperature Max: 125°C; Operating Temperature Min: -40°C; Packaging: Tape and Reel; Length: 4.1mm; Width: 4.1mm; Height: 3.1mm; Automotive: Yes; DC Resistance Max: 74mOhm; Inductance: 6.8uH; Rated Current: 3.75A
footprint WE-MAIA_4030
simulation model 4030_78438357068_6.8u
pins: 1, 2

## 78438357082
designator L?, comment 8.2uH
WE-MAIA SMT Power Inductor, size 4030, 8.2uH, 3.45A, 86mOhm; Manufacturer Part Number: 78438357082; Manufacturer: Wurth Elektronik; Case/Size Code: 4030; Saturation Current @ 10%: 3.35A; Saturation Current @ 30%: 6.8A; Self Resonant Frequency: 17MHz; Category: Power Inductors; Match Code: WE-MAIA; ComponentLink1Description: Website Link; ComponentLink1URL: https://www.we-online.com/redexpert/article/78438357082?ad; ComponentLink2Description: Datasheet Link; ComponentLink2URL: https://www.we-online.com/redexpert/spec/78438357082?ad; Mount: Surface Mount; Operating Temperature Max: 125°C; Operating Temperature Min: -40°C; Packaging: Tape and Reel; Length: 4.1mm; Width: 4.1mm; Height: 3.1mm; Automotive: Yes; DC Resistance Max: 86mOhm; Inductance: 8.2uH; Rated Current: 3.45A
footprint WE-MAIA_4030
simulation model 4030_78438357082_8.2u
pins: 1, 2

## 78438357100
designator L?, comment 10uH
WE-MAIA SMT Power Inductor, size 4030, 10uH, 3.05A, 110mOhm; Manufacturer Part Number: 78438357100; Manufacturer: Wurth Elektronik; Case/Size Code: 4030; Saturation Current @ 10%: 3A; Saturation Current @ 30%: 5.95A; Self Resonant Frequency: 15MHz; Category: Power Inductors; Match Code: WE-MAIA; ComponentLink1Description: Website Link; ComponentLink1URL: https://www.we-online.com/redexpert/article/78438357100?ad; ComponentLink2Description: Datasheet Link; ComponentLink2URL: https://www.we-online.com/redexpert/spec/78438357100?ad; Mount: Surface Mount; Operating Temperature Max: 125°C; Operating Temperature Min: -40°C; Packaging: Tape and Reel; Length: 4.1mm; Width: 4.1mm; Height: 3.1mm; Automotive: Yes; DC Resistance Max: 110mOhm; Inductance: 10uH; Rated Current: 3.05A
footprint WE-MAIA_4030
simulation model 4030_78438357100_10u
pins: 1, 2

## 78438366010
designator L?, comment 1uH
WE-MAIA SMT Power Inductor, size 5020, 1uH, 11.1A, 13.1mOhm; Manufacturer Part Number: 78438366010; Manufacturer: Wurth Elektronik; Case/Size Code: 5020; Saturation Current @ 10%: 6.25A; Saturation Current @ 30%: 14A; Self Resonant Frequency: 50MHz; Category: Power Inductors; Match Code: WE-MAIA; ComponentLink1Description: Website Link; ComponentLink1URL: https://www.we-online.com/redexpert/article/78438366010?ad; ComponentLink2Description: Datasheet Link; ComponentLink2URL: https://www.we-online.com/redexpert/spec/78438366010?ad; Mount: Surface Mount; Operating Temperature Max: 125°C; Operating Temperature Min: -40°C; Packaging: Tape and Reel; Length: 5.4mm; Width: 5.4mm; Height: 2.1mm; Automotive: Yes; DC Resistance Max: 13.1mOhm; Inductance: 1uH; Rated Current: 11.1A
footprint WE-MAIA_5020
simulation model 5020_78438366010_1u
pins: 1, 2

## 78438366015
designator L?, comment 1.5uH
WE-MAIA SMT Power Inductor, size 5020, 1.5uH, 8.45A, 21.3mOhm; Manufacturer Part Number: 78438366015; Manufacturer: Wurth Elektronik; Case/Size Code: 5020; Saturation Current @ 10%: 5.85A; Saturation Current @ 30%: 13.2A; Self Resonant Frequency: 35MHz; Category: Power Inductors; Match Code: WE-MAIA; ComponentLink1Description: Website Link; ComponentLink1URL: https://www.we-online.com/redexpert/article/78438366015?ad; ComponentLink2Description: Datasheet Link; ComponentLink2URL: https://www.we-online.com/redexpert/spec/78438366015?ad; Mount: Surface Mount; Operating Temperature Max: 125°C; Operating Temperature Min: -40°C; Packaging: Tape and Reel; Length: 5.4mm; Width: 5.4mm; Height: 2.1mm; Automotive: Yes; DC Resistance Max: 21.3mOhm; Inductance: 1.5uH; Rated Current: 8.45A
footprint WE-MAIA_5020
simulation model 5020_78438366015_1.5u
pins: 1, 2

## 78438366022
designator L?, comment 2.2uH
WE-MAIA SMT Power Inductor, size 5020, 2.2uH, 7.4A, 27.3mOhm; Manufacturer Part Number: 78438366022; Manufacturer: Wurth Elektronik; Case/Size Code: 5020; Saturation Current @ 10%: 5.35A; Saturation Current @ 30%: 12A; Self Resonant Frequency: 31.5MHz; Category: Power Inductors; Match Code: WE-MAIA; ComponentLink1Description: Website Link; ComponentLink1URL: https://www.we-online.com/redexpert/article/78438366022?ad; ComponentLink2Description: Datasheet Link; ComponentLink2URL: https://www.we-online.com/redexpert/spec/78438366022?ad; Mount: Surface Mount; Operating Temperature Max: 125°C; Operating Temperature Min: -40°C; Packaging: Tape and Reel; Length: 5.4mm; Width: 5.4mm; Height: 2.1mm; Automotive: Yes; DC Resistance Max: 27.3mOhm; Inductance: 2.2uH; Rated Current: 7.4A
footprint WE-MAIA_5020
simulation model 5020_78438366022_2.2u
pins: 1, 2

## 78438366033
designator L?, comment 3.3uH
WE-MAIA SMT Power Inductor, size 5020, 3.3uH, 6.1A, 38.4mOhm; Manufacturer Part Number: 78438366033; Manufacturer: Wurth Elektronik; Case/Size Code: 5020; Saturation Current @ 10%: 4.4A; Saturation Current @ 30%: 9.7A; Self Resonant Frequency: 23MHz; Category: Power Inductors; Match Code: WE-MAIA; ComponentLink1Description: Website Link; ComponentLink1URL: https://www.we-online.com/redexpert/article/78438366033?ad; ComponentLink2Description: Datasheet Link; ComponentLink2URL: https://www.we-online.com/redexpert/spec/78438366033?ad; Mount: Surface Mount; Operating Temperature Max: 125°C; Operating Temperature Min: -40°C; Packaging: Tape and Reel; Length: 5.4mm; Width: 5.4mm; Height: 2.1mm; Automotive: Yes; DC Resistance Max: 38.4mOhm; Inductance: 3.3uH; Rated Current: 6.1A
footprint WE-MAIA_5020
simulation model 5020_78438366033_3.3u
pins: 1, 2

## 78438366047
designator L?, comment 4.7uH
WE-MAIA SMT Power Inductor, size 5020, 4.7uH, 4.65A, 63mOhm; Manufacturer Part Number: 78438366047; Manufacturer: Wurth Elektronik; Case/Size Code: 5020; Saturation Current @ 10%: 3.5A; Saturation Current @ 30%: 7.7A; Self Resonant Frequency: 20MHz; Category: Power Inductors; Match Code: WE-MAIA; ComponentLink1Description: Website Link; ComponentLink1URL: https://www.we-online.com/redexpert/article/78438366047?ad; ComponentLink2Description: Datasheet Link; ComponentLink2URL: https://www.we-online.com/redexpert/spec/78438366047?ad; Mount: Surface Mount; Operating Temperature Max: 125°C; Operating Temperature Min: -40°C; Packaging: Tape and Reel; Length: 5.4mm; Width: 5.4mm; Height: 2.1mm; Automotive: Yes; DC Resistance Max: 63mOhm; Inductance: 4.7uH; Rated Current: 4.65A
footprint WE-MAIA_5020
simulation model 5020_78438366047_4.7u
pins: 1, 2